# EAGLE library part STIFTLEISTE-P06 (library Projekt)
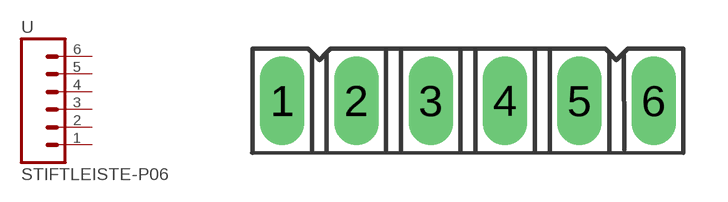
[diagram p11: symbol with the pads of PFOSTENSTECKER-P06; footprint PFOSTENSTECKER-P06]

Designator prefix -

## STIFTLEISTE-P06  [PFOSTENSTECKER-P06]
1  1  pas
2  2  pas
3  3  pas
4  4  pas
5  5  pas
6  6  pas

## Footprint PFOSTENSTECKER-P06 (pad centres in mm)
AMP QUICK CONNECTOR
drill 1.016 long: 1 -6.35,0; 2 -3.81,0; 3 -1.27,0; 4 1.27,0; 5 3.81,0; 6 6.35,0